# EAGLE library part PCA9547 (library sjg-i2c)
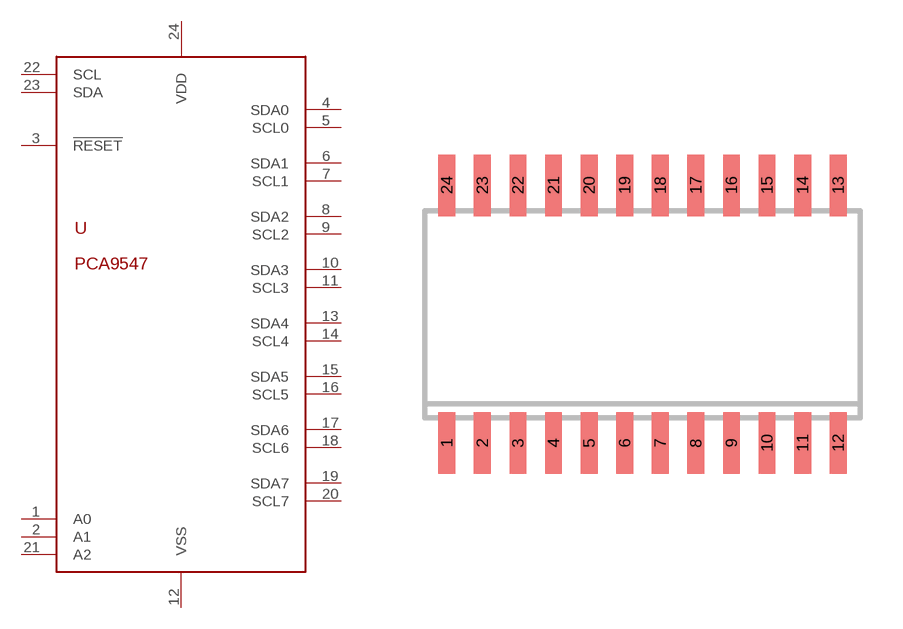
[diagram p0: symbol with the pads of SO24W; footprint SO24W]

Designator prefix -

## PCA9547  [SO24W]
1  A0
2  A1
3  !RESET!
4  SDA0
5  SCL0
6  SDA1
7  SCL1
8  SDA2
9  SCL2
10  SDA3
11  SCL3
12  VSS
13  SDA4
14  SCL4
15  SDA5
16  SCL5
17  SDA6
18  SCL6
19  SDA7
20  SCL7
21  A2
22  SCL
23  SDA
24  VDD

## Footprint SO24W (pad centres in mm)
SMALL OUTLINE INTEGRATED CIRCUIT wide body 7.5 mm/JEDEC MO-119AA
smd 0.6 x 2.2: 1 -6.985,-4.6; 2 -5.715,-4.6; 3 -4.445,-4.6; 4 -3.175,-4.6; 5 -1.905,-4.6; 6 -0.635,-4.6; 7 0.635,-4.6; 8 1.905,-4.6; 9 3.175,-4.6; 10 4.445,-4.6; 11 5.715,-4.6; 12 6.985,-4.6; 13 6.985,4.6; 14 5.715,4.6; 15 4.445,4.6; 16 3.175,4.6; 17 1.905,4.6; 18 0.635,4.6; 19 -0.635,4.6; 20 -1.905,4.6; 21 -3.175,4.6; 22 -4.445,4.6; 23 -5.715,4.6; 24 -6.985,4.6